# EAGLE library part 649016221732 (library Wire_to_Board_Connectors_rev15d)
WR-MPC4 4.20mm Male Dual Row Vertical Header with Mounting Pegs, 16 Pins=>Code : Con_WTB_MPC4_2_PCB_649016221732 <http://katalog.we-online.de/media/thumbs2/eican/thb_Con_WTB_MPC4_2_PCB_6490xx221732_pf2.jpg> Details see: http://katalog.we-online.de/en/em/649_0xx_221_732 Created 2014-06-06, Karrer Zheng 2014 (C) Würth Elektronik
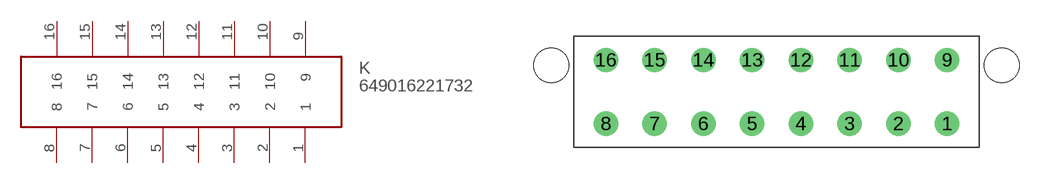
[diagram p302: symbol with the pads of 649016221732; footprint 649016221732]

Designator prefix K

## 649016221732  [649016221732]
1  1
2  2
3  3
4  4
5  5
6  6
7  7
8  8
9  9
10  10
11  11
12  12
13  13
14  14
15  15
16  16

## Footprint 649016221732 (pad centres in mm)
WR-MPC4 4.20mm Male Dual Row Vertical Header with Mounting Pegs, 16 Pins
drill 1.4: 1 14.7,-2.75; 2 10.5,-2.75; 3 6.3,-2.75; 4 2.1,-2.75; 5 -2.1,-2.75; 6 -6.3,-2.75; 7 -10.5,-2.75; 8 -14.7,-2.75; 9 14.7,2.75; 10 10.5,2.75; 11 6.3,2.75; 12 2.1,2.75; 13 -2.1,2.75; 14 -6.3,2.75; 15 -10.5,2.75; 16 -14.7,2.75
hole 3 at -19.4,2.29
hole 3 at 19.4,2.29